# EAGLE library part MM5452 (library texas-mm54xx-lcd-drivers)
Texas Instruments - MM5452 Liquid Crystal Display Driver
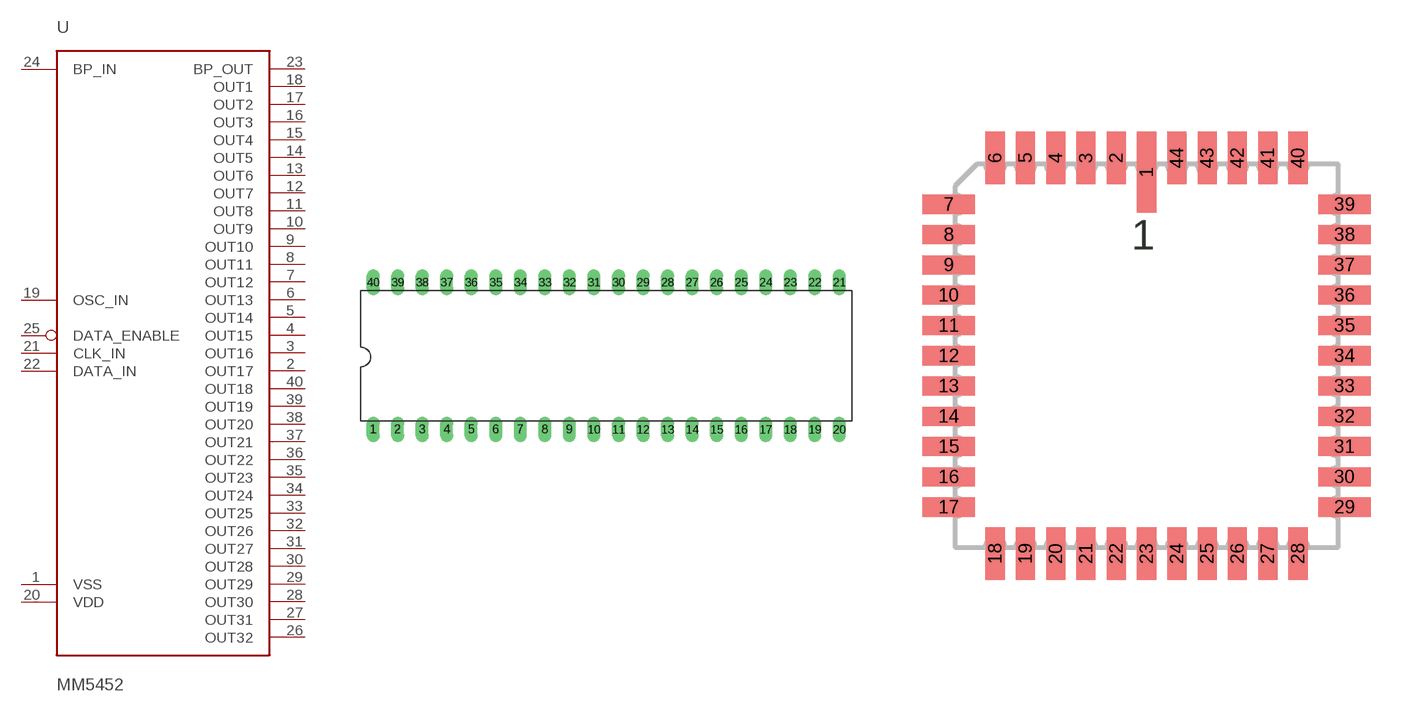
[diagram p0: symbol with the pads of DIL40; footprints DIL40, LCC-44]

Designator prefix U

## MM5452  [DIL40]
1  VSS  pwr
2  OUT17  out
3  OUT16  out
4  OUT15  out
5  OUT14  out
6  OUT13  out
7  OUT12  out
8  OUT11  out
9  OUT10  out
10  OUT9  out
11  OUT8  out
12  OUT7  out
13  OUT6  out
14  OUT5  out
15  OUT4  out
16  OUT3  out
17  OUT2  out
18  OUT1  out
19  OSC_IN  in
20  VDD  pwr
21  CLK_IN  in
22  DATA_IN  in
23  BP_OUT  out
24  BP_IN  in
25  DATA_ENABLE  in
26  OUT32  out
27  OUT31  out
28  OUT30  out
29  OUT29  out
30  OUT28  out
31  OUT27  out
32  OUT26  out
33  OUT25  out
34  OUT24  out
35  OUT23  out
36  OUT22  out
37  OUT21  out
38  OUT20  out
39  OUT19  out
40  OUT18  out

## MM5452LCC-44  [LCC-44]
2  VSS  pwr
3  OUT17  out
4  OUT16  out
5  OUT15  out
6  OUT14  out
7  OUT13  out
8  OUT12  out
9  OUT11  out
10  OUT10  out
11  OUT9  out
12  OUT8  out
13  OUT7  out
14  OUT6  out
15  OUT5  out
16  OUT4  out
17  OUT3  out
19  OUT2  out
20  OUT1  out
21  OSC_IN  in
22  VDD  pwr
24  CLK_IN  in
25  DATA_IN  in
26  BP_OUT  out
27  BP_IN  in
28  DATA_ENABLE  in
30  OUT32  out
31  OUT31  out
32  OUT30  out
33  OUT29  out
34  OUT28  out
35  OUT27  out
36  OUT26  out
37  OUT25  out
38  OUT24  out
39  OUT23  out
40  OUT22  out
41  OUT21  out
42  OUT20  out
43  OUT19  out
44  OUT18  out

## Footprint DIL40 (pad centres in mm)
Dual In Line Package
drill 0.813 long: 1 -24.13,-7.62; 2 -21.59,-7.62; 3 -19.05,-7.62; 4 -16.51,-7.62; 5 -13.97,-7.62; 6 -11.43,-7.62; 7 -8.89,-7.62; 8 -6.35,-7.62; 9 -3.81,-7.62; 10 -1.27,-7.62; 11 1.27,-7.62; 12 3.81,-7.62; 13 6.35,-7.62; 14 8.89,-7.62; 15 11.43,-7.62; 16 13.97,-7.62; 17 16.51,-7.62; 18 19.05,-7.62; 19 21.59,-7.62; 20 24.13,-7.62; 21 24.13,7.62; 22 21.59,7.62; 23 19.05,7.62; 24 16.51,7.62; 25 13.97,7.62; 26 11.43,7.62; 27 8.89,7.62; 28 6.35,7.62; 29 3.81,7.62; 30 1.27,7.62; 31 -1.27,7.62; 32 -3.81,7.62; 33 -6.35,7.62; 34 -8.89,7.62; 35 -11.43,7.62; 36 -13.97,7.62; 37 -16.51,7.62; 38 -19.05,7.62; 39 -21.59,7.62; 40 -24.13,7.62

## Footprint LCC-44 (pad centres in mm)
LEADLESS CERAMIC CHIP CARRIER
smd 0.8 x 3.4: 1 0,7.7
smd 0.8 x 2.2: 2 -1.27,8.3; 3 -2.54,8.3; 4 -3.81,8.3; 5 -5.08,8.3; 6 -6.35,8.3; 18 -6.35,-8.3; 19 -5.08,-8.3; 20 -3.81,-8.3; 21 -2.54,-8.3; 22 -1.27,-8.3; 23 0,-8.3; 24 1.27,-8.3; 25 2.54,-8.3; 26 3.81,-8.3; 27 5.08,-8.3; 28 6.35,-8.3; 40 6.35,8.3; 41 5.08,8.3; 42 3.81,8.3; 43 2.54,8.3; 44 1.27,8.3
smd 2.2 x 0.8: 7 -8.3,6.35; 8 -8.3,5.08; 9 -8.3,3.81; 10 -8.3,2.54; 11 -8.3,1.27; 12 -8.3,0; 13 -8.3,-1.27; 14 -8.3,-2.54; 15 -8.3,-3.81; 16 -8.3,-5.08; 17 -8.3,-6.35; 29 8.3,-6.35; 30 8.3,-5.08; 31 8.3,-3.81; 32 8.3,-2.54; 33 8.3,-1.27; 34 8.3,0; 35 8.3,1.27; 36 8.3,2.54; 37 8.3,3.81; 38 8.3,5.08; 39 8.3,6.35